# Altium integrated library Kursovoi proekt.IntLib: 61 symbols
Pins are listed as number, name and electrical type; pins without a type are passive.

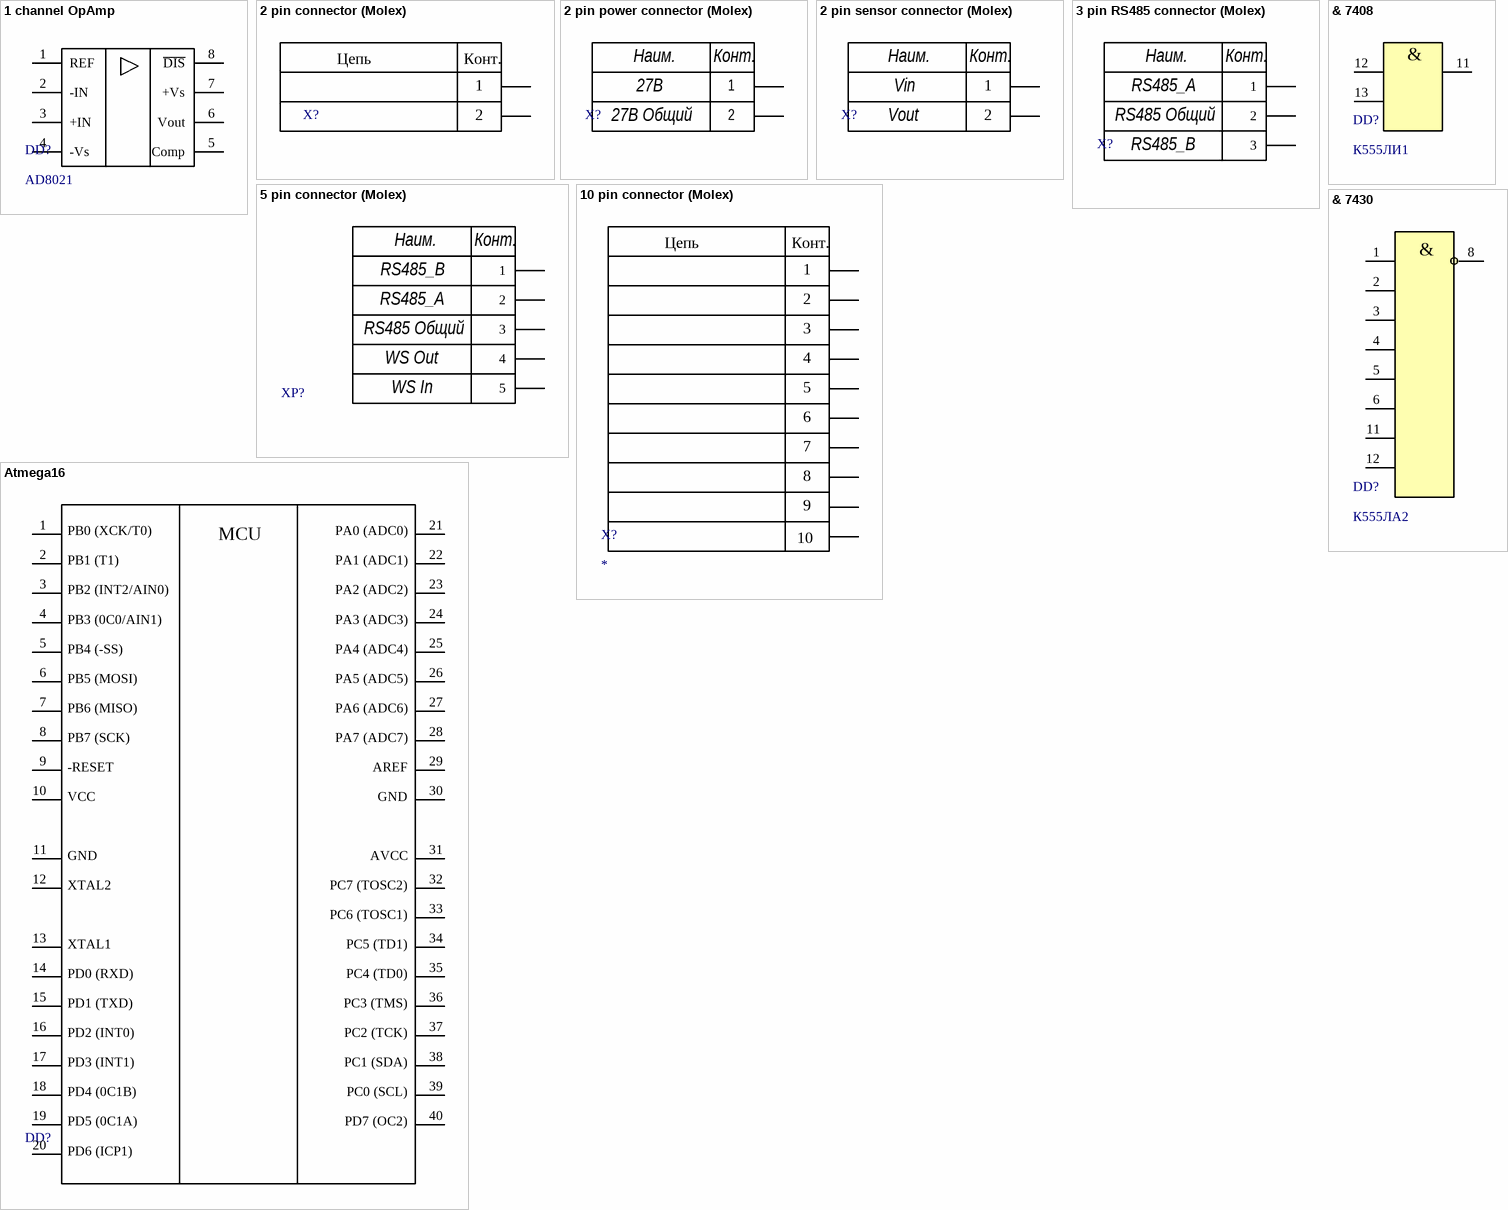
[diagram p0: symbols 1 channel OpAmp to Atmega16]

## 1 channel OpAmp
designator DD?, comment AD8021
footprint SOIC-8
pins: 1 REF, 2 -IN, 3 +IN, 4 -Vs, 5 Comp, 6 Vout, 7 +Vs, 8 ~{DIS}

## 2 pin connector (Molex)
designator X?
footprint Molex 559320210
pins: 1, 2
text: Цепь; Конт.

## 2 pin power connector (Molex)
designator X?
footprint MolexMicroFit 2x1
pins: 1, 2
text: Наим.; Конт.; 27В; 27В Общий

## 2 pin sensor connector (Molex)
designator X?
footprint MolexMicroFit 2x1
pins: 1, 2
text: Наим.; Конт.; Vin; Vout

## 3 pin RS485 connector (Molex)
designator X?
footprint MolexMicroFit 3x1
pins: 1, 2, 3
text: Наим.; Конт.; RS485_A; RS485 Общий; RS485_B

## 5 pin connector (Molex)
designator XP?
footprint MolexMicroFit 5x1
pins: 1, 2, 3, 4, 5
text: Наим.; Конт.; RS485_B; RS485_A; RS485 Общий; WS Out; WS In

## 10 pin connector (Molex)
designator X?
footprint MOLEX_55917-1010
pins: 1, 2, 3, 4, 5, 6, 7, 8, 9, 10
text: Цепь; Конт.

## & 7408
designator DD?, comment К555ЛИ1
pins: 11, 12, 13
text: &

## & 7430
designator DD?, comment К555ЛА2
pins: 1, 2, 3, 4, 5, 6, 8, 11, 12
text: &

## Atmega16
designator DD?
footprint TQFP-44
pins: 1, 2, 3, 4, 5, 6, 7, 8, 9, 10, 11, 12, 13, 14, 15, 16, 17, 18, 19, 20, 21, 22, 23, 24, 25, 26, 27, 28, 29, 30, 31, 32, 33, 34, 35, 36, 37, 38, 39, 40
text: PB0 (XCK/T0); PA0 (ADC0); MCU; PB1 (T1); PA1 (ADC1); PB2 (INT2/AIN0); PA2 (ADC2); PB3 (0C0/AIN1); PA3 (ADC3); PB4 (-SS); PA4 (ADC4); PB5 (MOSI); PA5 (ADC5); PB6 (MISO); PA6 (ADC6); PB7 (SCK); PA7 (ADC7); -RESET; AREF; VCC; GND; AVCC; XTAL2; PC7 (TOSC2); PC6 (TOSC1); XTAL1; PC5 (TD1); PD0 (RXD); PC4 (TD0); PD1 (TXD); PC3 (TMS); PD2 (INT0); PC2 (TCK); PD3 (INT1); PC1 (SDA); PD4 (0C1B); PC0 (SCL); PD5 (0C1A); PD7 (OC2); PD6 (ICP1)

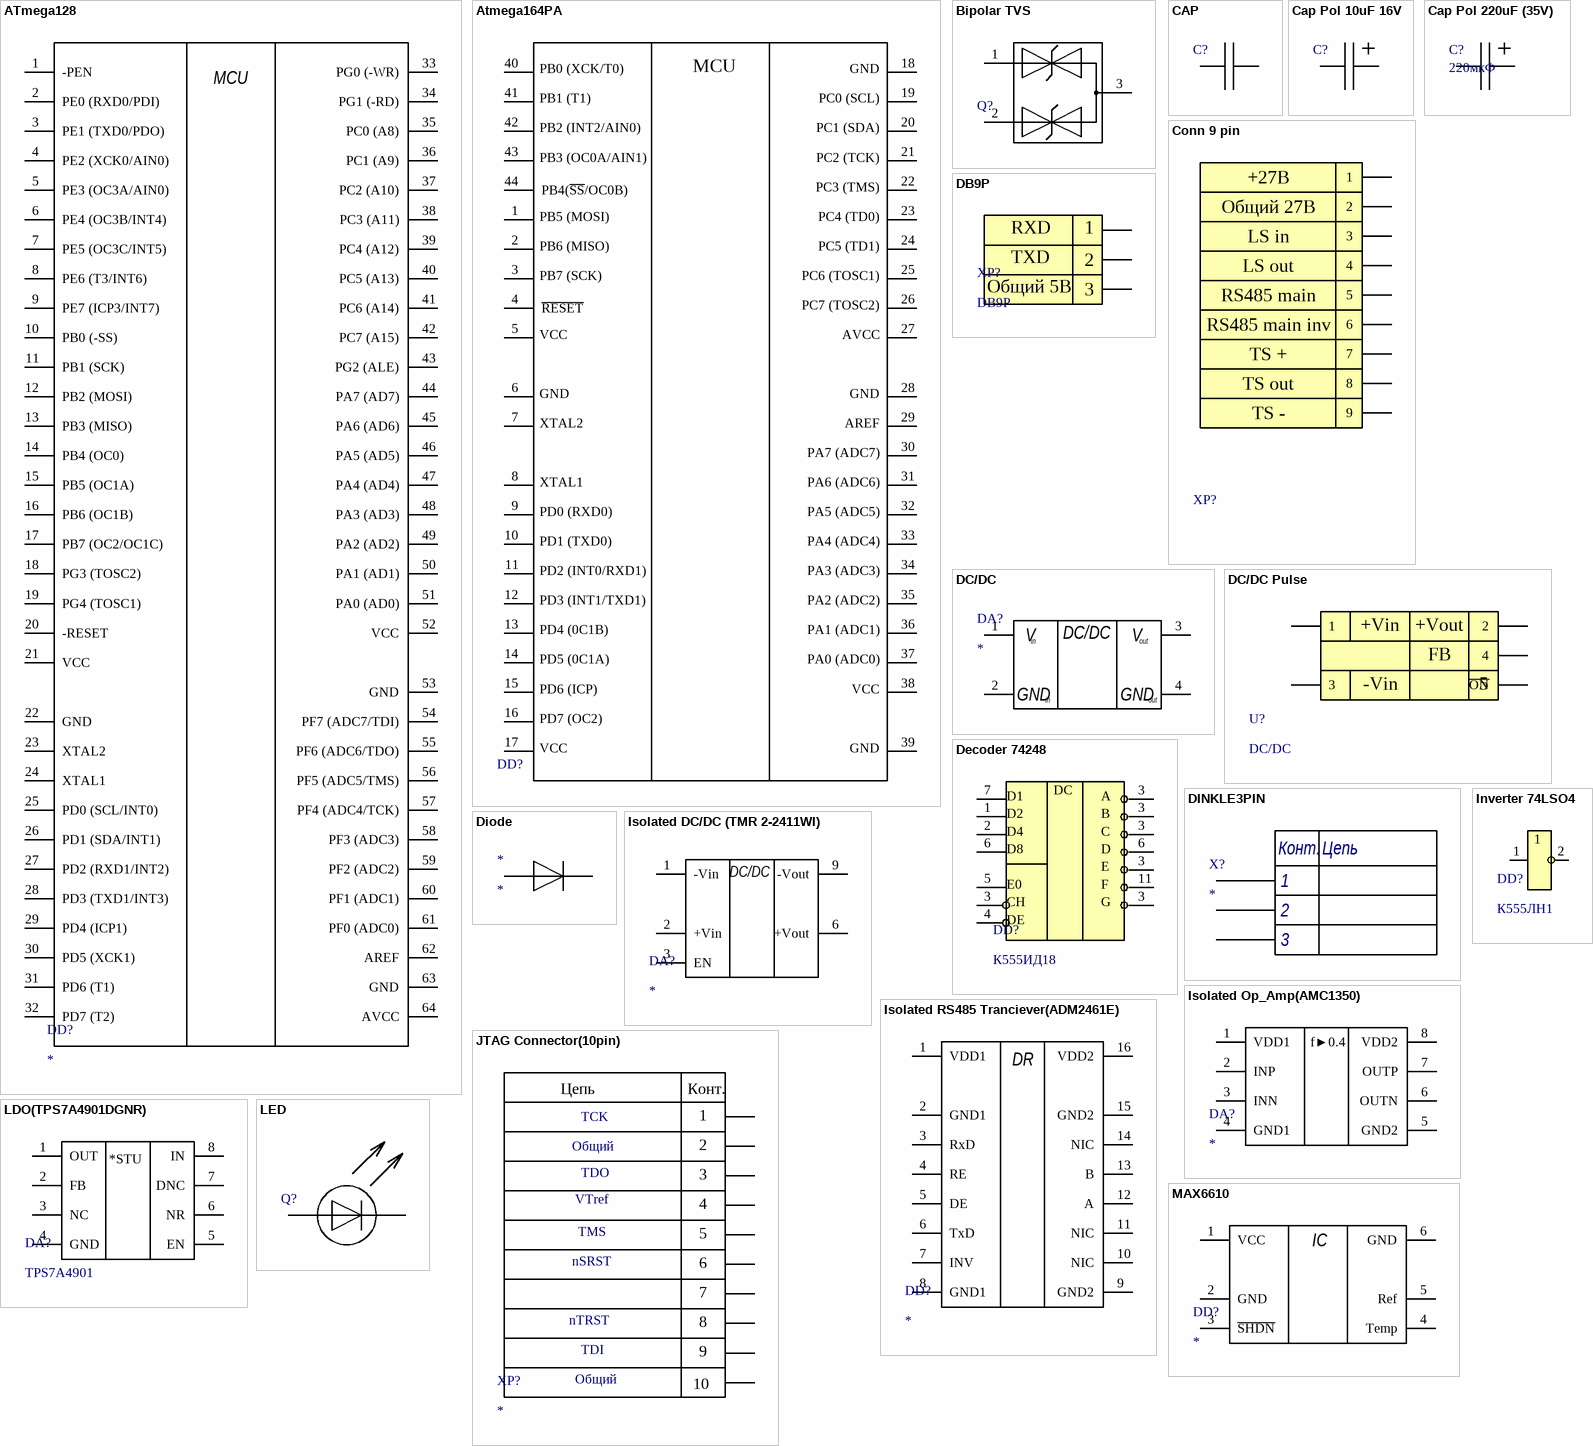
[diagram p1: symbols ATmega128 to MAX6610]

## ATmega128
designator DD?
footprint TQFP-64
pins: 1 -PEN, 2 PE0 (RXD0/PDI), 3 PE1 (TXD0/PDO), 4 PE2 (XCK0/AIN0), 5 PE3 (OC3A/AIN0), 6 PE4 (OC3B/INT4), 7 PE5 (OC3C/INT5), 8 PE6 (T3/INT6), 9 PE7 (ICP3/INT7), 10 PB0 (-SS), 11 PB1 (SCK), 12 PB2 (MOSI), 13 PB3 (MISO), 14 PB4 (OC0), 15 PB5 (OC1A), 16 PB6 (OC1B), 17 PB7 (OC2/OC1C), 18 PG3 (TOSC2), 19 PG4 (TOSC1), 20 -RESET, 21 VCC, 22 GND, 23 XTAL2, 24 XTAL1, 25 PD0 (SCL/INT0), 26 PD1 (SDA/INT1), 27 PD2 (RXD1/INT2), 28 PD3 (TXD1/INT3), 29 PD4 (ICP1), 30 PD5 (XCK1), 31 PD6 (T1), 32 PD7 (T2), 33 PG0 (-WR), 34 PG1 (-RD), 35 PC0 (A8), 36 PC1 (A9), 37 PC2 (A10), 38 PC3 (A11), 39 PC4 (A12), 40 PC5 (A13), 41 PC6 (A14), 42 PC7 (A15), 43 PG2 (ALE), 44 PA7 (AD7), 45 PA6 (AD6), 46 PA5 (AD5), 47 PA4 (AD4), 48 PA3 (AD3), 49 PA2 (AD2), 50 PA1 (AD1), 51 PA0 (AD0), 52 VCC, 53 GND, 54 PF7 (ADC7/TDI), 55 PF6 (ADC6/TDO), 56 PF5 (ADC5/TMS), 57 PF4 (ADC4/TCK), 58 PF3 (ADC3), 59 PF2 (ADC2), 60 PF1 (ADC1), 61 PF0 (ADC0), 62 AREF, 63 GND, 64 AVCC
text: MCU

## Atmega164PA
designator DD?
ComponentLink1Description: Datasheet; ComponentLink1URL: https://static.chipdip.ru/lib/562/DOC011562915.pdf; ComponentLink2Description: Chip&Dip; ComponentLink2URL: https://www.chipdip.ru/product/atmega164pa-au?from=suggest_product
footprint TQFP-44
pins: 1, 2, 3, 4 ~{RESET}, 5, 6, 7, 8, 9, 10, 11, 12, 13, 14, 15, 16, 17, 18, 19, 20, 21, 22, 23, 24, 25, 26, 27, 28, 29, 30, 31, 32, 33, 34, 35, 36, 37, 38, 39, 40, 41, 42, 43, 44 PB4(~{SS}/OC0B)
text: PB0 (XCK/T0); MCU; GND; PB1 (T1); PC0 (SCL); PB2 (INT2/AIN0); PC1 (SDA); PB3 (OC0A/AIN1); PC2 (TCK); PC3 (TMS); PB5 (MOSI); PC4 (TD0); PB6 (MISO); PC5 (TD1); PB7 (SCK); PC6 (TOSC1); PC7 (TOSC2); VCC; AVCC; XTAL2; AREF; PA7 (ADC7); XTAL1; PA6 (ADC6); PD0 (RXD0); PA5 (ADC5); PD1 (TXD0); PA4 (ADC4); PD2 (INT0/RXD1); PA3 (ADC3); PD3 (INT1/TXD1); PA2 (ADC2); PD4 (0C1B); PA1 (ADC1); PD5 (0C1A); PA0 (ADC0); PD6 (ICP); PD7 (OC2)

## Bipolar TVS
designator Q?, comment Bipolar TVS diode  (value not drawn)
ComponentLink1Description: Chip&Dip; ComponentLink1URL: https://www.chipdip.ru/product/nup2105lt1g
footprint SOT-23-3
pins: 1, 2, 3

## CAP
designator C?  (value not drawn)
footprint 0805
pins: 1, 2

## Cap Pol 10uF 16V
designator C?, comment CAP  (value not drawn)
ECAP SMD,  16VV, 105°C
footprint Cap pol 4x5.4
pins: 1, 2

## Cap Pol 220uF (35V)
designator C?, comment 220мкФ
ECAP SMD,  35V, 105°C, 20%; ComponentLink1Description: Chip&Dip; ComponentLink1URL: https://www.chipdip.ru/product0/9000565743
footprint CAP POL 8x10.5
pins: 1, 2

## Conn 9 pin
designator XP?
pins: 1, 2, 3, 4, 5, 6, 7, 8, 9
text: +27В; Общий 27В; LS in; LS out; RS485 main; RS485 main inv; TS +; TS out; TS -

## DB9P
designator XP?
pins: 2, 2, 2
text: RXD; 1; TXD; Общий 5В; 3

## DC/DC
designator DA?
footprint CONV_THM_10-2411
pins: 1, 2, 3, 4
text: V; in; out; GND

## DC/DC Pulse
designator U?, comment DC/DC
ComponentLink1Description: Chip&Dip; ComponentLink1URL: https://www.chipdip.ru/product/lm2575s-5.0-nopb
footprint TO-263-5L
pins: 1, 2, 3, 4, 5 ~{ON}
text: +Vin; +Vout; FB; -Vin

## Decoder 74248
designator DD?, comment К555ИД18
pins: 1, 2, 3, 3, 3, 3, 3, 3, 4, 5, 6, 6, 7, 11
text: DC; D1; A; D2; B; D4; C; D8; D; E; E0; F; CH; G; DE

## DINKLE3PIN
designator X?
footprint DINKLE3PIN (ECH381V-03P)
pins: 1, 2, 3
text: Конт.; Цепь

## Diode
designator *
pins: 1, 3

## Inverter 74LSO4
designator DD?, comment К555ЛН1
pins: 1, 2

## Isolated DC/DC (TMR 2-2411WI)
designator DA?
footprint SIP-9
pins: 1 -Vin, 2 +Vin, 3 EN, 6 +Vout, 9 -Vout
text: DC/DC

## Isolated Op_Amp(AMC1350)
designator DA?
footprint SOIC-8
pins: 1 VDD1, 2 INP, 3 INN, 4 GND1, 5 GND2, 6 OUTN, 7 OUTP, 8 VDD2
text: f►0.4

## Isolated RS485 Tranciever(ADM2461E)
designator DD?
footprint SSOP-16
pins: 1 VDD1, 2 GND1, 3 RxD, 4 RE, 5 DE, 6 TxD, 7 INV, 8 GND1, 9 GND2, 10 NIC, 11 NIC, 12 A, 13 B, 14 NIC, 15 GND2, 16 VDD2
text: DR

## JTAG Connector(10pin)
designator XP?
ComponentLink1Description: CHIPDIP; ComponentLink1URL: https://www.chipdip.ru/product/pld-10
footprint PLD 10
pins: 1, 2, 3, 4, 5, 6, 7, 8, 9, 10
text: Цепь; Конт.; TCK; Общий; TDO; VTref; TMS; nSRST; nTRST; TDI

## LDO(TPS7A4901DGNR)
designator DA?, comment TPS7A4901
footprint HVSSOP-8
pins: 1 OUT, 2 FB, 3 NC, 4 GND, 5 EN, 6 NR, 7 DNC, 8 IN
text: *STU

## LED
designator Q?  (value not drawn)
pins: 1, 3

## MAX6610
designator DD?
ComponentLink1Description: Datasheet; ComponentLink1URL: https://ru.mouser.com/datasheet/2/256/MAX6610-MAX6611-369699.pdf
footprint SOT-23-6
pins: 1 VCC, 2 GND, 3 ~{SHDN}, 4 Temp, 5 Ref, 6 GND
text: IC

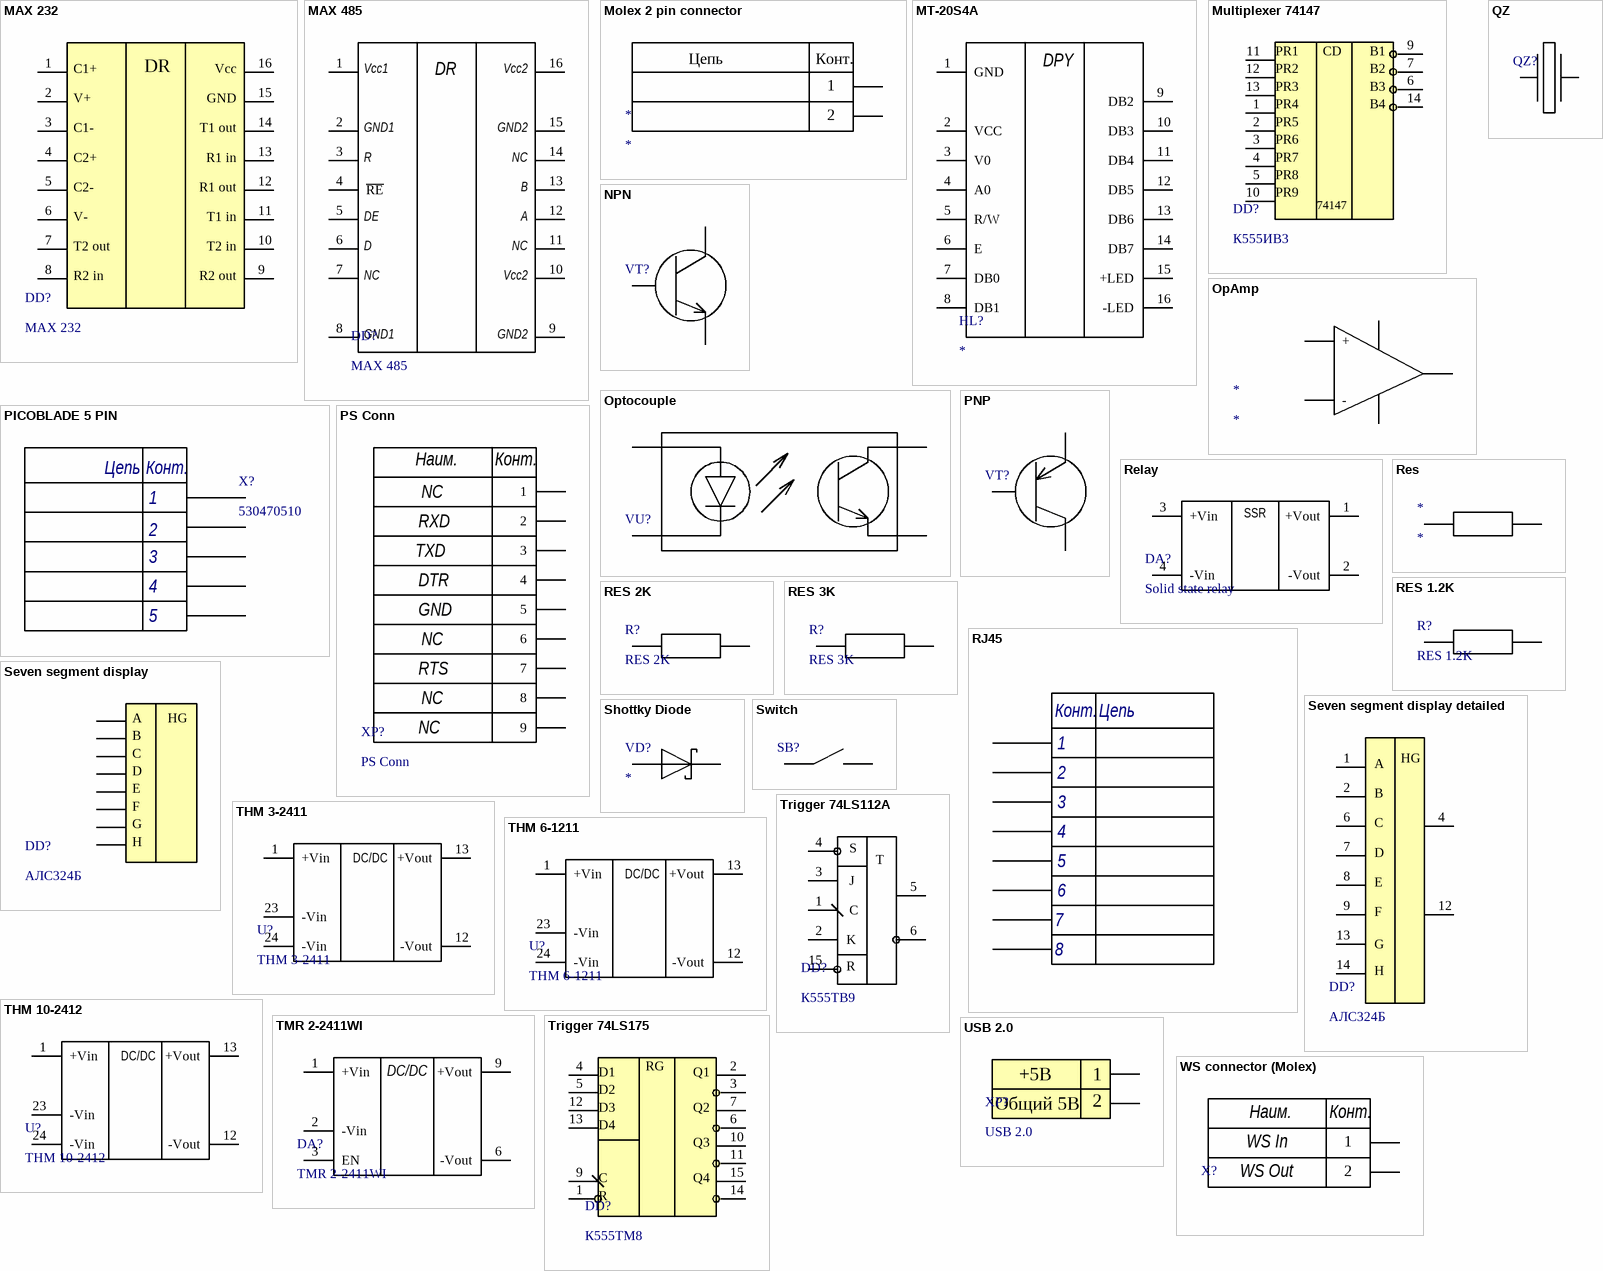
[diagram p2: symbols MAX 232 to WS connector (Molex)]

## MAX 232
designator DD?
pins: 1, 2, 3, 4, 5, 6, 7, 8, 9, 10, 11, 12, 13, 14, 15, 16
text: C1+; DR; Vcc; V+; GND; C1-; T1 out; C2+; R1 in; C2-; R1 out; V-; T1 in; T2 out; T2 in; R2 in; R2 out

## MAX 485
designator DD?
ComponentLink1Description: Datasheet; ComponentLink1URL: https://www.ti.com/lit/ds/symlink/iso1500.pdf?ts=1632655446349&ref_url=https%253A%252F%252Fwww.ti.com%252Fisolation%252Fisolated-interfaces%252Frs-485-transceivers%252Foverview.html; ComponentLink2Description: Ссылка Chip&Dip; ComponentLink2URL: https://www.chipdip.ru/product1/8003093154
footprint SSOP-16
pins: 1, 2, 3, 4 ~{RE}, 5, 6, 7, 8, 9, 10, 11, 12, 13, 14, 15, 16
text: Vcc1; Vcc2; DR; GND1; GND2; R; NC; B; DE; A; D

## Molex 2 pin connector
designator *
footprint MolexMicroFit 2x1
pins: 1, 2
text: Цепь; Конт.

## MT-20S4A
designator HL?
footprint PCBComponent_1
pins: 1 GND, 2 VCC, 3 V0, 4 A0, 5 R/W, 6 E, 7 DB0, 8 DB1, 9 DB2, 10 DB3, 11 DB4, 12 DB5, 13 DB6, 14 DB7, 15 +LED, 16 -LED
text: DPY

## Multiplexer 74147
designator DD?, comment К555ИВ3
pins: 1, 2, 3, 4, 5, 6, 7, 9, 10, 11, 12 13, 13, 14
text: PR1; CD; B1; PR2; B2; PR3; B3; PR4; B4; PR5; PR6; PR7; PR8; PR9; 74147

## NPN
designator VT?  (value not drawn)
footprint SOT-23-3
pins: 1, 2, 3

## OpAmp
designator *
pins: 1 +Vout, 1 +Vout, 2 -Vout, 3 +, 4 -

## Optocouple
designator VU?  (value not drawn)
ComponentLink1Description: New link; ComponentLink1URL: https://www.chipdip.ru/product/fod817bs
footprint FAIR-MDIP-4_V
pins: 1, 2, 3, 4

## PICOBLADE 5 PIN
designator X?, comment 530470510
footprint PICOBLADE5PIN (530470510)
pins: 1, 2, 3, 4, 5
text: Цепь; Конт.

## PNP
designator VT?  (value not drawn)
footprint SOT-23-3
pins: 1, 2, 3

## PS Conn
designator XP?
ComponentLink1Description: Chip&Dip; ComponentLink1URL: https://www.chipdip.ru/product/5-106505-2-1
footprint DB9 D-SUB Conn
pins: 1, 2, 3, 4, 5, 6, 7, 8, 9
text: Наим.; Конт.; NC; RXD; TXD; DTR; GND; RTS

## QZ
designator QZ?, comment Quartz rez  (value not drawn)
ComponentLink1Description: Chip&Dip; ComponentLink1URL: https://www.chipdip.ru/product0/8006373177
footprint XTAL
pins: 1, 2

## Relay
designator DA?, comment Solid state relay
ComponentLink1Description: Chip&Dip; ComponentLink1URL: https://www.chipdip.ru/product/cx240d5
footprint Relay
pins: 1 +Vout, 2 -Vout, 3 +Vin, 4 -Vin
text: SSR

## Res
designator *
footprint 0805
pins: 1, 2

## RES 1.2K
designator R?
ComponentLink1Description: Chip&Dip; ComponentLink1URL: https://www.chipdip.ru/product0/9000079488
footprint 0805
pins: 1, 2

## RES 2K
designator R?
ComponentLink1Description: Chip&Dip; ComponentLink1URL: https://www.chipdip.ru/product0/9000079919
footprint 0805
pins: 1, 2

## RES 3K
designator R?
ComponentLink1Description: Chip&Dip; ComponentLink1URL: https://www.chipdip.ru/product0/9000079923
footprint 0805
pins: 1, 2

## RJ45
designator X?
footprint RJ45
pins: 1, 2, 3, 4, 5, 6, 7, 8
text: Конт.; Цепь

## Seven segment display
designator DD?, comment АЛС324Б
pins: 1, 2, 3, 3, 6, 7, 10, 13
text: A; HG; B; C; D; E; F; G; H

## Seven segment display detailed
designator DD?, comment АЛС324Б
pins: 1, 2, 4, 6, 7, 8, 9, 12, 13, 14
text: A; HG; B; C; D; E; F; G; H

## Shottky Diode
designator VD?
footprint SMC
pins: 1, 2

## Switch
designator SB?, comment Button  (value not drawn)
pins: 1, 2

## THM 3-2411
designator U?
3W 18-36Vin 5Vout; ComponentLink1Description: Chip&Dip; ComponentLink1URL: https://www.chipdip.ru/product0/8006388794
footprint CONV_THM_10-2411
pins: 1 +Vin, 12 -Vout, 13 +Vout, 23 -Vin, 24 -Vin
text: DC/DC

## THM 6-1211
designator U?
6W 18-36Vin 5Vout; ComponentLink1Description: Chip&Dip; ComponentLink1URL: https://www.chipdip.ru/product0/8006915262
footprint CONV_THM_10-2411
pins: 1 +Vin, 12 -Vout, 13 +Vout, 23 -Vin, 24 -Vin
text: DC/DC

## THM 10-2412
designator U?
10W 18-36Vin 12Vout; ComponentLink1Description: Chip&Dip; ComponentLink1URL: https://www.chipdip.ru/product0/8006388794
footprint CONV_THM_10-2411
pins: 1 +Vin, 12 -Vout, 13 +Vout, 23 -Vin, 24 -Vin
text: DC/DC

## TMR 2-2411WI
designator DA?
2W 18-36Vin 5Vout
footprint SIP-9
pins: 1 +Vin, 2 -Vin, 3 EN, 6 -Vout, 9 +Vout
text: DC/DC

## Trigger 74LS112A
designator DD?, comment К555ТВ9
pins: 1, 2, 3, 4, 5, 6, 15
text: S; T; J; C; K; R

## Trigger 74LS175
designator DD?, comment К555ТМ8
pins: 1, 2, 3, 4, 5, 6, 7, 9, 10, 11, 12, 13, 14, 15
text: RG; D1; Q1; D2; D3; Q2; D4; Q3; C; Q4; R

## USB 2.0
designator XP?
pins: 2, 2
text: +5В; 1; Общий 5В

## WS connector (Molex)
designator X?
footprint MolexMicroFit 2x1
pins: 1, 2
text: Наим.; Конт.; WS In; WS Out